# Altium footprint library RWH0032A.PcbLib: 1 footprints
Each footprint in its own frame and in the unit in brackets; x right, y up, seen from the top. Pads: shape width x height; smd on the part's side, far side on the other; paste and mask are expansions set on the pad; w line width, h text height; cw(c..) or ccw(c..) is an arc to the next point about the centre after c.
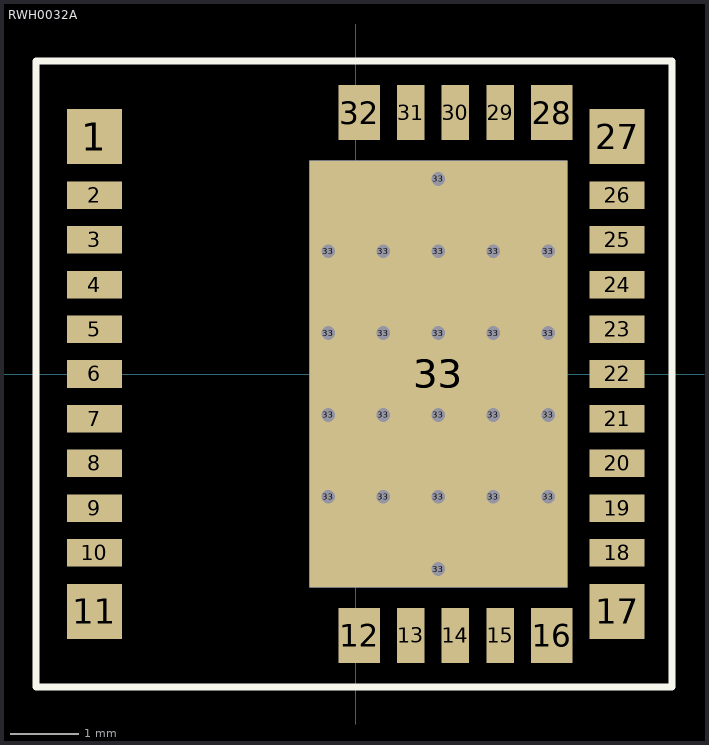
[diagram p0: the footprint, top view; thin cyan lines are the x and y axes]

## RWH0032A [mm]
pads (56):
  rect 0.8x0.8 smd mask+0.1: 1(-3.8,3.45) 11(-3.8,-3.45) 17(3.8,-3.45) 27(3.8,3.45)
  rect 0.8x0.4 smd mask+0.1: 2(-3.8,2.6) 3(-3.8,1.95) 4(-3.8,1.3) 5(-3.8,0.65) 6(-3.8,0) 7(-3.8,-0.65) 8(-3.8,-1.3) 9(-3.8,-1.95) 10(-3.8,-2.6) 18(3.8,-2.6) 19(3.8,-1.95) 20(3.8,-1.3) 21(3.8,-0.65) 22(3.8,0) 23(3.8,0.65) 24(3.8,1.3) 25(3.8,1.95) 26(3.8,2.6)
  rect 0.6x0.8 smd mask+0.1: 12(0.05,-3.8) 16(2.85,-3.8) 28(2.85,3.8) 32(0.05,3.8)
  rect 0.4x0.8 smd mask+0.1: 13(0.8,-3.8) 14(1.45,-3.8) 15(2.1,-3.8) 29(2.1,3.8) 30(1.45,3.8) 31(0.8,3.8)
  round 0.2 hole 0.2 paste+0 mask+0: 33(-0.4,-1.785) 33(-0.4,-0.595) 33(-0.4,0.595) 33(-0.4,1.785) 33(0.4,-1.785) 33(0.4,-0.595) 33(0.4,0.595) 33(0.4,1.785) 33(1.2,-2.835) 33(1.2,-1.785) 33(1.2,-0.595) 33(1.2,0.595) 33(1.2,1.785) 33(1.2,2.835) 33(2,-1.785) 33(2,-0.595) 33(2,0.595) 33(2,1.785) 33(2.8,-1.785) 33(2.8,-0.595) 33(2.8,0.595) 33(2.8,1.785)
  rect 3.75x6.2 smd mask+0.1: 33(1.2,0)
  rect 3.75x6.2 smd far side mask+0.05: 33(1.2,0)
Top Overlay:
  lines w0.1: -4.65,-4.55 -4.65,4.55 4.6,4.55 4.6,-4.55 -4.65,-4.55
3D body "RWH0032A.stp": height 0.9, standoff 0, extent -4,-4 4,4
3D body: height 1.35, standoff -1.35, extent -1.6,0.4 -1.6,0.4